# Altium footprint library PH9455.PcbLib: 2 footprints
Each footprint in its own frame and in the unit in brackets; x right, y up, seen from the top. Pads: shape width x height; smd on the part's side, far side on the other; paste and mask are expansions set on the pad; w line width, h text height; cw(c..) or ccw(c..) is an arc to the next point about the centre after c.
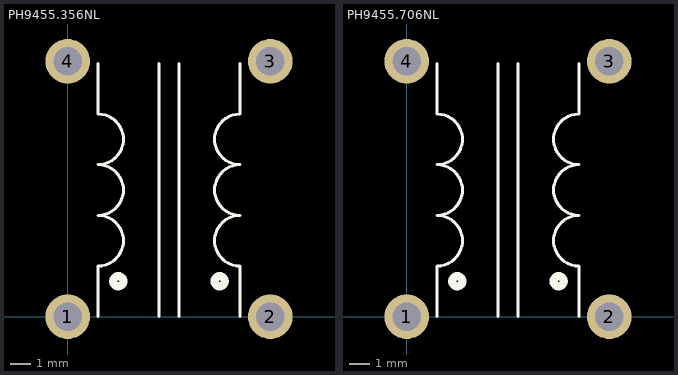
[diagram p0: the footprints below, top view; thin cyan lines are the x and y axes]

## PH9455.356NL [mm] "EMI Filter 35mH"
pads (4):
  round 2.2 hole 1.4 mask+0.05: 1(0,0) 2(10,0) 3(10,12.6) 4(0,12.6)
Top Overlay:
  circle w0.4: c7.5,1.75 r0.25
  circle w0.4: c2.5,1.75 r0.25
  lines w0.15: 1.5,0 1.5,2.5 ccw(c1.5,3.75) 1.5,5 ccw(c1.5,6.25) 1.5,7.5 ccw(c1.5,8.75) 1.5,10 1.5,12.5 ; 4.5,0 4.5,12.5 ; 5.5,0 5.5,12.5 ; 8.5,0 8.5,2.5 ; 8.5,2.5 cw(c8.5,3.75) 8.5,5 cw(c8.5,6.25) 8.5,7.5 cw(c8.5,8.75) 8.5,10 8.5,12.5
3D body "PH9455_3d.STEP": height 27.5, standoff -3, extent -8.5,-3.25 18.5,15.75

## PH9455.706NL [mm]
pads (4):
  round 2.2 hole 1.4 mask+0.05: 1(0,0) 2(10,0) 3(10,12.6) 4(0,12.6)
Top Overlay:
  circle w0.4: c7.5,1.75 r0.25
  circle w0.4: c2.5,1.75 r0.25
  lines w0.15: 1.5,0 1.5,2.5 ccw(c1.5,3.75) 1.5,5 ccw(c1.5,6.25) 1.5,7.5 ccw(c1.5,8.75) 1.5,10 1.5,12.5 ; 4.5,0 4.5,12.5 ; 5.5,0 5.5,12.5 ; 8.5,0 8.5,2.5 ; 8.5,2.5 cw(c8.5,3.75) 8.5,5 cw(c8.5,6.25) 8.5,7.5 cw(c8.5,8.75) 8.5,10 8.5,12.5
3D body "PH9455_3d.STEP": height 27.5, standoff -3, extent -8.5,-3.25 18.5,15.75